# Altium schematic symbol library VALIX1_14font.SchLib: 59 symbols
Pins are listed as number, name and electrical type; pins without a type are passive.

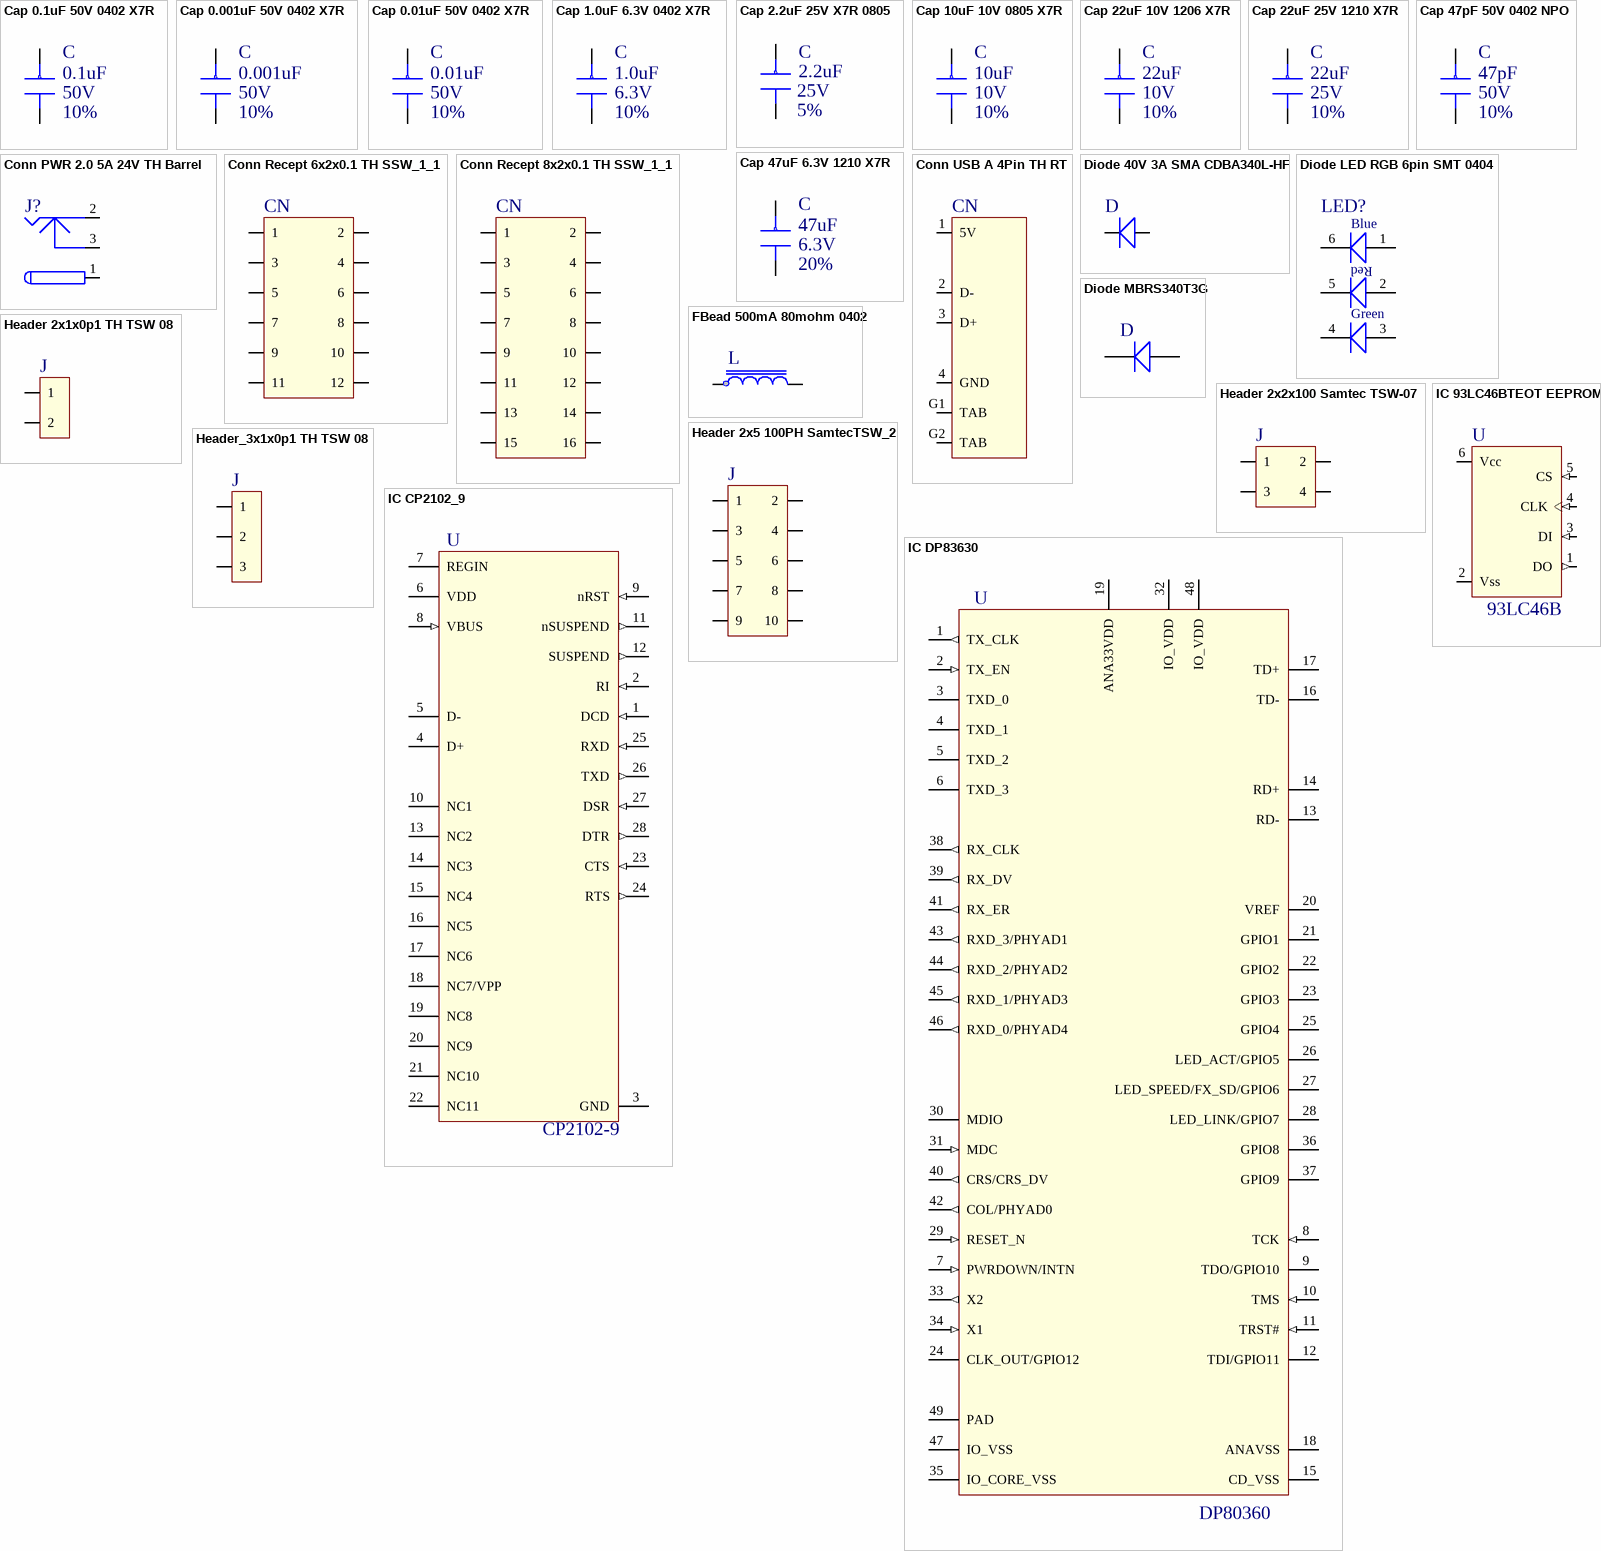
[diagram p0: symbols Cap 0.1uF 50V 0402 X7R to IC DP83630]

## Cap 0.1uF 50V 0402 X7R
designator C  value 0.1uF  Rating: 50V  Tolerance: 10%  (hidden comment: Cap 0.1uF 50V 0402 X7R)
Capacitor 0.1uF 50V 10% 0402 X7R; Manufacture: Yageo; Manufacture Part Number: CC0402KRX7R9BB104; Supplier 1: Farnell; Supplier 2: Mouser; Supplier 3: Farnell; Supplier Part Number 1: 1833861; Supplier Part Number 2: 80-C0402C104K4R; Supplier Part Number 3: 2429353
footprint CC0402_p56_TLH (Chip Capacitor, 2-Leads, Body 1.0x0.50x0.56mm, IPC Low Density)
3D model MCS_0402 (PCB3D Model)
pins: 1, 2

## Cap 0.001uF 50V 0402 X7R
designator C  value 0.001uF  Rating: 50V  Tolerance: 10%  (hidden comment: Cap 0.001uF 50V 0402 X7R)
Capacitor 0.001uF 50V10% 0402 X7R; Manufacture: Yageo; Manufacture Part Number: CC0402KRX7R9BB102; Supplier 1: Mouser; Supplier 2: Digi-Key; Supplier Part Number 1: 603-CC402KRX7R9BB102; Supplier Part Number 2: 311-1036-1-ND
footprint CC0402_p56_TLH (Chip Capacitor, 2-Leads, Body 1.0x0.50x0.56mm, IPC Low Density)
3D model MCS_0402 (PCB3D Model)
pins: 1, 2

## Cap 0.01uF 50V 0402 X7R
designator C  value 0.01uF  Rating: 50V  Tolerance: 10%  (hidden comment: Cap 0.01uF 50V 0402 X7R)
Capacitor 0.01uF 50V10% 0402 X7R; Manufacture: Yageo; Manufacture Part Number: CC0402KRX7R9BB103; Supplier 1: Mouser; Supplier 2: Digi-Key; Supplier Part Number 1: 603-CC402KRX7R9BB103; Supplier Part Number 2: 311-1349-1-ND
footprint CC0402_p56_TLH (Chip Capacitor, 2-Leads, Body 1.0x0.50x0.56mm, IPC Low Density)
3D model MCS_0402 (PCB3D Model)
pins: 1, 2

## Cap 1.0uF 6.3V 0402 X7R
designator C  value 1.0uF  Rating: 6.3V  Tolerance: 10%  (hidden comment: Cap 1.0uF 6.3V 0402 X7R)
Capacitor 1.0uF 6.3V 10% 0402 X7R; Manufacture: Yageo; Manufacture Part Number: CC0402KRX7R5BB105; Supplier 1: Mouser; Supplier 2: Digi-Key; Supplier Part Number 1: 603-CC402KRX7R5BB105; Supplier Part Number 2: 311-1702-6-ND
footprint CC0402_p56_TLH (Chip Capacitor, 2-Leads, Body 1.0x0.50x0.56mm, IPC Low Density)
3D model MCS_0402 (PCB3D Model)
pins: 1, 2

## Cap 2.2uF 25V X7R 0805
designator C, comment value 2.2uF  Rating: 25V  Tolerance: 5%  (hidden comment: Cap 2.2uF 25V 0805 X7R)
Capacitor 2.2uF 25V 5% 0805 X7R; Supplier 1: Digi-Key; Supplier 2: Digi-Key; Supplier Part Number 1: 445-6965-6-ND; Supplier Part Number 2: 587-2991-6-ND
footprint CC0805_p94H_TLH (Cap 0805 0p94 high)
3D model MCU_0805 (PCB3D Model)
pins: 1, 2

## Cap 10uF 10V 0805 X7R
designator C  value 10uF  Rating: 10V  Tolerance: 10%  (hidden comment: Cap 10uF 10V 0805 X7R)
Capacitor 10uF 10V 10% 0805 X7R; Manufacture: Yageo; Manufacture Part Number: CC0805KKX7R6BB106; Supplier 1: Digi-Key; Supplier 2: Farnell; Supplier Part Number 1: 311-1879-1-ND; Supplier Part Number 2: 2368960
footprint CC0805_p94H_TLH (Cap 0805 0p94 high)
pins: 1, 2

## Cap 22uF 10V 1206 X7R
designator C  value 22uF  Rating: 10V  Tolerance: 10%  (hidden comment: Cap 22uF 10V 1206 X7R)
Capacitor 22uF 10V 10% 1206 X7R; Manufacture: Yageo; Manufacture Part Number: CC1206MKX7R6BB226; Supplier 1: Digi-Key; Supplier 2: Farnell; Supplier Part Number 1: 311-2002-1-ND; Supplier Part Number 2: 2218909
footprint C1206
pins: 1, 2

## Cap 22uF 25V 1210 X7R
designator C, comment value 22uF  Rating: 25V  Tolerance: 10%  (hidden comment: Cap 22uF 10V 1210 X7R)
Capacitor 22uF 25V 10% 1210 X7R; Manufacture: Murata; Manufacture Part Number: GRM32ER71E226KE5L; Supplier 1: Mouser; Supplier 2: Mouser; Supplier 3: Digi-Key; Supplier Part Number 1: 81-GRM32ER71E226KE5L; Supplier Part Number 2: 80-C1210C226K3R; Supplier Part Number 3: 1276-3391-1-ND; Date Created: 20151201
footprint CC1210_H1p6_20151019 (CC1210H1.6 Chip2PinSM127P600-8N)
pins: 1, 2

## Cap 47pF 50V 0402 NPO
designator C  value 47pF  Rating: 50V  Tolerance: 10%  (hidden comment: Cap 47pF 50V 0402 NPO)
Capacitor 47pF 50V 10% 0402 NPO; Manufacture: AVX; Manufacture Part Number: 04025A470JAT2A; Supplier 1: Newark; Supplier 2: Digi-Key; Supplier 3: Mouser; Supplier Part Number 1: 96M1153; Supplier Part Number 2: 478-1078-6-ND; Supplier Part Number 3: 603-AC0402JR9BN470
footprint CC0402_p56_TLH (Chip Capacitor, 2-Leads, Body 1.0x0.50x0.56mm, IPC Low Density)
3D model MCS_0402 (PCB3D Model)
pins: 1, 2

## Cap 47uF 6.3V 1210 X7R
designator C  value 47uF  Rating: 6.3V  Tolerance: 20%  (hidden comment: Cap 47uF 6.3V 1210 X7R)
Capacitor 47uF 6.3V 20% 1210 X7R; Manufacture: Murata; Manufacture Part Number: GRM32ER70J476ME20L; Supplier 1: Digi-Key; Supplier 2: Newark; Supplier 3: Mouser; Supplier Part Number 1: 490-6542-1-ND; Supplier Part Number 2: 94M5704; Supplier Part Number 3: 81-GRM32ER70J476ME0L
footprint CC1210_H1p6_20151019 (CC1210H1.6 Chip2PinSM127P600-8N)
pins: 1, 2

## Conn PWR 2.0 5A 24V TH Barrel
designator J?  (value not drawn)
Manufacture Part Number: KLDHCX-0202-A; Manufacture: Kycon; ComponentLink1URL: http://domino.kycon.com/internet/Products.html; Supplier 1: Mouser; Supplier 2: Mouser; Supplier Part Number 1: 806-KLDHCX-0202-A-LT; Supplier Part Number 2: 806-KLDHCX-0202-A
footprint KLD-0202 (DC Power Jack, 2.5mm, KLD Series, PCB Mount)
pins: 1 (power), 2 (power), 3 (power)

## Conn Recept 6x2x0.1 TH SSW_1_1
designator CN, comment Conn Recept 6x2x0.1 TH SSW  (value not drawn)
Manufature: Samtec; Manufacture Part number: SSW-106-xx-G-D; Supplier 1: Digi-Key; Supplier 2: Farnell; Supplier Part Number 1: SAM1214-06-ND; Supplier Part Number 2: 1668354
footprint Conn Recept 6x2x8p35 0p1PH TH (Conn Recept 6x2x8p35 0p1PH TH Samtec SSW)
pins: 1, 2, 3, 4, 5, 6, 7, 8, 9, 10, 11 (power), 12 (power)

## Conn Recept 8x2x0.1 TH SSW_1_1
designator CN, comment Conn Recept 8x2x0.1 TH SSW  (value not drawn)
Manufature: Samtec; Manufacture Part number: SSW-108-xx-G-D; Supplier 1: Digi-Key; Supplier 2: Farnell; Supplier Part Number 1: SAM1214-08-ND; Supplier Part Number 2: 1668364
footprint Conn Recept 8x2x8p35 0p1PH TH (Conn Recept 8x2x8p35 0p1PH TH Samtec SSW)
pins: 1, 2, 3, 4, 5, 6, 7, 8, 9, 10, 11, 12, 13, 14, 15, 16

## Conn USB A 4Pin TH RT
designator CN, comment Conn USB A TH RT  (value not drawn)
Connector USB A 4Pin TH RT; Supplier 1: Newark; Supplier 2: Digi-Key; Supplier 3: Mouser; Supplier 4: Arrow; Supplier Part Number 1: 01J8374; Supplier Part Number 2: WM17117-ND; Supplier Part Number 3: 538-48037-0001; Supplier Part Number 4: zAc_MAfs4zVJ_QhPoMB0GZu3CPMjh44DToxilnH02fA
footprint Connector USB A 4Pin Plug RT
pins: 1 5V, 2 D-, 3 D+, 4 GND, G1 TAB, G2 TAB

## Diode 40V 3A SMA CDBA340L-HF
designator D, comment Diode 40V 3A  (value not drawn)
Diode 40V 3A SMA CDBA340L-HF; Manufacturer: Comchip; Supplier 1: Digi-Key; Supplier 2: Mouser; Supplier Part Number 1: 641-1702-1-ND; Supplier Part Number 2: 750-CDBA340L-HF; Manufacturer Part Number: CDBA340L-HF
footprint SMA_SOICJ127P600-8N (SMA Diode)
pins: 1 C NEG, 2 A POS

## Diode LED RGB 6pin SMT 0404
designator LED?, comment LED RGB  (value not drawn)
Diode LED RGB 6pin SMT 0404; Manufacture Part Number: SMLP36RGB2W3; Manufacture: Rohm; Supplier 1: Mouser; Supplier 2: Digi-Key; Supplier Part Number 1: 755-SMLP36RGB2W3R; Supplier Part Number 2: 846-1097-1-ND
footprint LED_RGB_1p5x1p0x0p2_6pin_SON57P100X256N (SON, 6-Leads, Body 1.50x1.00mm, Pitch 0.57mm, IPC Medium Density)
pins: 1 BLue_Anode, 2 Red_Anode, 3 Green_Anode, 4 Green_cath, 5 Red_cath, 6 Blue_cath
text: Blue; Red; Green

## Diode MBRS340T3G
designator D  (value not drawn)
Diode 40V 3A SMC MBRS340T3G; Supplier 1: Digi-Key; Supplier Part Number 1: MBRS340T3GOSCT-ND
footprint SMC
3D model SMC (PCB3D Model)
pins: 1 C NEG, 2 A POS

## FBead 500mA 80mohm 0402
designator L, comment FB 0.5A 80mohm 0402  (value not drawn)
Ferrite Bead 500mA 80mohm 0402; Manufacturer Part Number: BLM15BB050SN1D; Manufacturer: Murata; Supplier 1: Mouser; Supplier 2: Digi-Key; Supplier Part Number 1: 81-BLM15BB050SN1D; Supplier Part Number 2: 490-5185-1-ND; Value: 0.5A
footprint Chip2PinSM127P600-8N_TLH20150921 (Chip 0402 inductor)
pins: 1, 2

## Header 2x1x0p1 TH TSW 08
designator J  (value not drawn)
Header 2x1x0p1 TH TSW 08; Manufacture: Samtec; Manufacture Part Number: TSW-102-07-G-S; Supplier 1: Arrow; Supplier 2: Digi-Key; Supplier Part Number 1: XqXcRUZDoil1pcHE_dgIYZ2y-Twifka2BTSvqET9Puo; Supplier Part Number 2: SAM8736-ND
footprint Header 2x1x0p1 TH TSW (Header 2x1x0p1 Thru OV-430)
pins: 1, 2

## Header 2x2x100 Samtec TSW-07
designator J, comment Header 2x2 100Pitch  (value not drawn)
Header 2x2x100pitch Pin TSW; Manufature: Samtec; Manufacture Part Number: TSW-102-07-G-D; Supplier 1: Digi-Key; Supplier 2: Newark; Supplier Part Number 1: HTSW-102-07-G-D-ND; Supplier Part Number 2: 12P1257
footprint Header_2x2x0p100e (Header 2x2x100mil Samtec TSW standard)
pins: 1, 2, 3, 4

## Header 2x5 100PH SamtecTSW_2
designator J, comment Header 2x5 100Pitch  (value not drawn)
Header 2x5x100pitch Pin TSW; Manufature: Samtec; Manufacture Part number: TSW-105-07-G-D; Supplier 1: Digi-Key; Supplier 2: Arrow; Supplier 3: Farnell; Supplier Part Number 1: HTSW-105-07-G-D-ND; Supplier Part Number 2: vhWTpuTKCcs3C_TdRGpLCLgt6TM2wgVjnAWb2rFNMs4; Supplier Part Number 3: 2025251
footprint Header_2x5_100x100 (Header 2x5 100x100 Samtec TSW standard)
pins: 1, 2, 3, 4, 5, 6, 7, 8, 9, 10

## Header_3x1x0p1 TH TSW 08
designator J  (value not drawn)
Header 3x1x0p1 TH TSW 08; Manufacture: Samtec; Manufacture Part Number: TSW-103-07-G-S; Supplier 1: Arrow; Supplier 2: Digi-Key; Supplier Part Number 1: ki_VQBX7cJb-mj5zBWhuwBP_UpLbgrxgo2dDFNibvJM; Supplier Part Number 2: SAM1029-03-ND
footprint Header 3x1x0p1 TH TSW (Header 2x1x0p1 Thru OV-430)
pins: 1, 2, 3 (power)

## IC 93LC46BTEOT EEPROM
designator U, comment 93LC46B
IC EEPROM Serial  SOT23 6Pin; Supplier 2: Mouser; Supplier Part Number 2: 579-93LC46BT-E/OT; Supplier 1: Mouser; Supplier 3: Allied; Supplier Part Number 1: 579-93LC46BT-E/OT; Supplier Part Number 3: 70571703
footprint SO-G6/E2.4 (Small Outline; 6 Leads; Body 3.6 x 3.6 mm, inc. leads (LxW max))
pins: 1 DO (out), 2 Vss, 3 DI (in), 4 CLK (in), 5 CS (in), 6 Vcc (power)

## IC CP2102_9
designator U, comment CP2102-9
IC USB and UART Bridge QFN-48; Manufacturer: TI; Part Number: CP2102-9
footprint QFN50P500X500X100_HS-29N_TLH (QFN, 28-Leads, Body 5.00x5.00mm, Pitch 0.50mm, Thermal Pad 2.82x2.82mm, IPC Medium Density)
pins: 1 DCD (in), 2 RI (in), 3 GND, 4 D+, 5 D-, 6 VDD, 7 REGIN (power), 8 VBUS (in), 9 nRST (in), 10 NC1, 11 nSUSPEND (out), 12 SUSPEND (out), 13 NC2, 14 NC3, 15 NC4, 16 NC5, 17 NC6, 18 NC7/VPP, 19 NC8, 20 NC9, 21 NC10, 22 NC11, 23 CTS (in), 24 RTS (out), 25 RXD (in), 26 TXD (out), 27 DSR (in), 28 DTR (out)

## IC DP83630
designator U, comment Manufacturer Part Number: DP80360  (hidden comment: Precision PHYTER)
Precision PHYTER WQFN-49; Manufacturer: TI; Supplier 1: Digi-Key; Supplier Part Number 1: 296-37340-2-ND
footprint QFN50P700X700X80_HS-49N_TLH - duplicate (QFN, 48-Leads, Body 7.00x7.00mm, Pitch 0.50mm, Thermal Pad 5.10x5.10mm, IPC Medium Density)
pins: 1 TX_CLK (out), 2 TX_EN (in), 3 TXD_0, 4 TXD_1, 5 TXD_2, 6 TXD_3, 7 PWRDOWN/INTN (in), 8 TCK (in), 9 TDO/GPIO10, 10 TMS (in), 11 TRST# (in), 12 TDI/GPIO11, 13 RD-, 14 RD+, 15 CD_VSS, 16 TD-, 17 TD+, 18 ANAVSS, 19 ANA33VDD (power), 20 VREF, 21 GPIO1, 22 GPIO2, 23 GPIO3, 24 CLK_OUT/GPIO12, 25 GPIO4, 26 LED_ACT/GPIO5, 27 LED_SPEED/FX_SD/GPIO6, 28 LED_LINK/GPIO7, 29 RESET_N (in), 30 MDIO, 31 MDC (in), 32 IO_VDD (power), 33 X2 (out), 34 X1 (in), 35 IO_CORE_VSS, 36 GPIO8, 37 GPIO9, 38 RX_CLK (out), 39 RX_DV (out), 40 CRS/CRS_DV (out), 41 RX_ER (out), 42 COL/PHYAD0 (out), 43 RXD_3/PHYAD1 (out), 44 RXD_2/PHYAD2 (out), 45 RXD_1/PHYAD3 (out), 46 RXD_0/PHYAD4 (out), 47 IO_VSS, 48 IO_VDD (power), 49 PAD

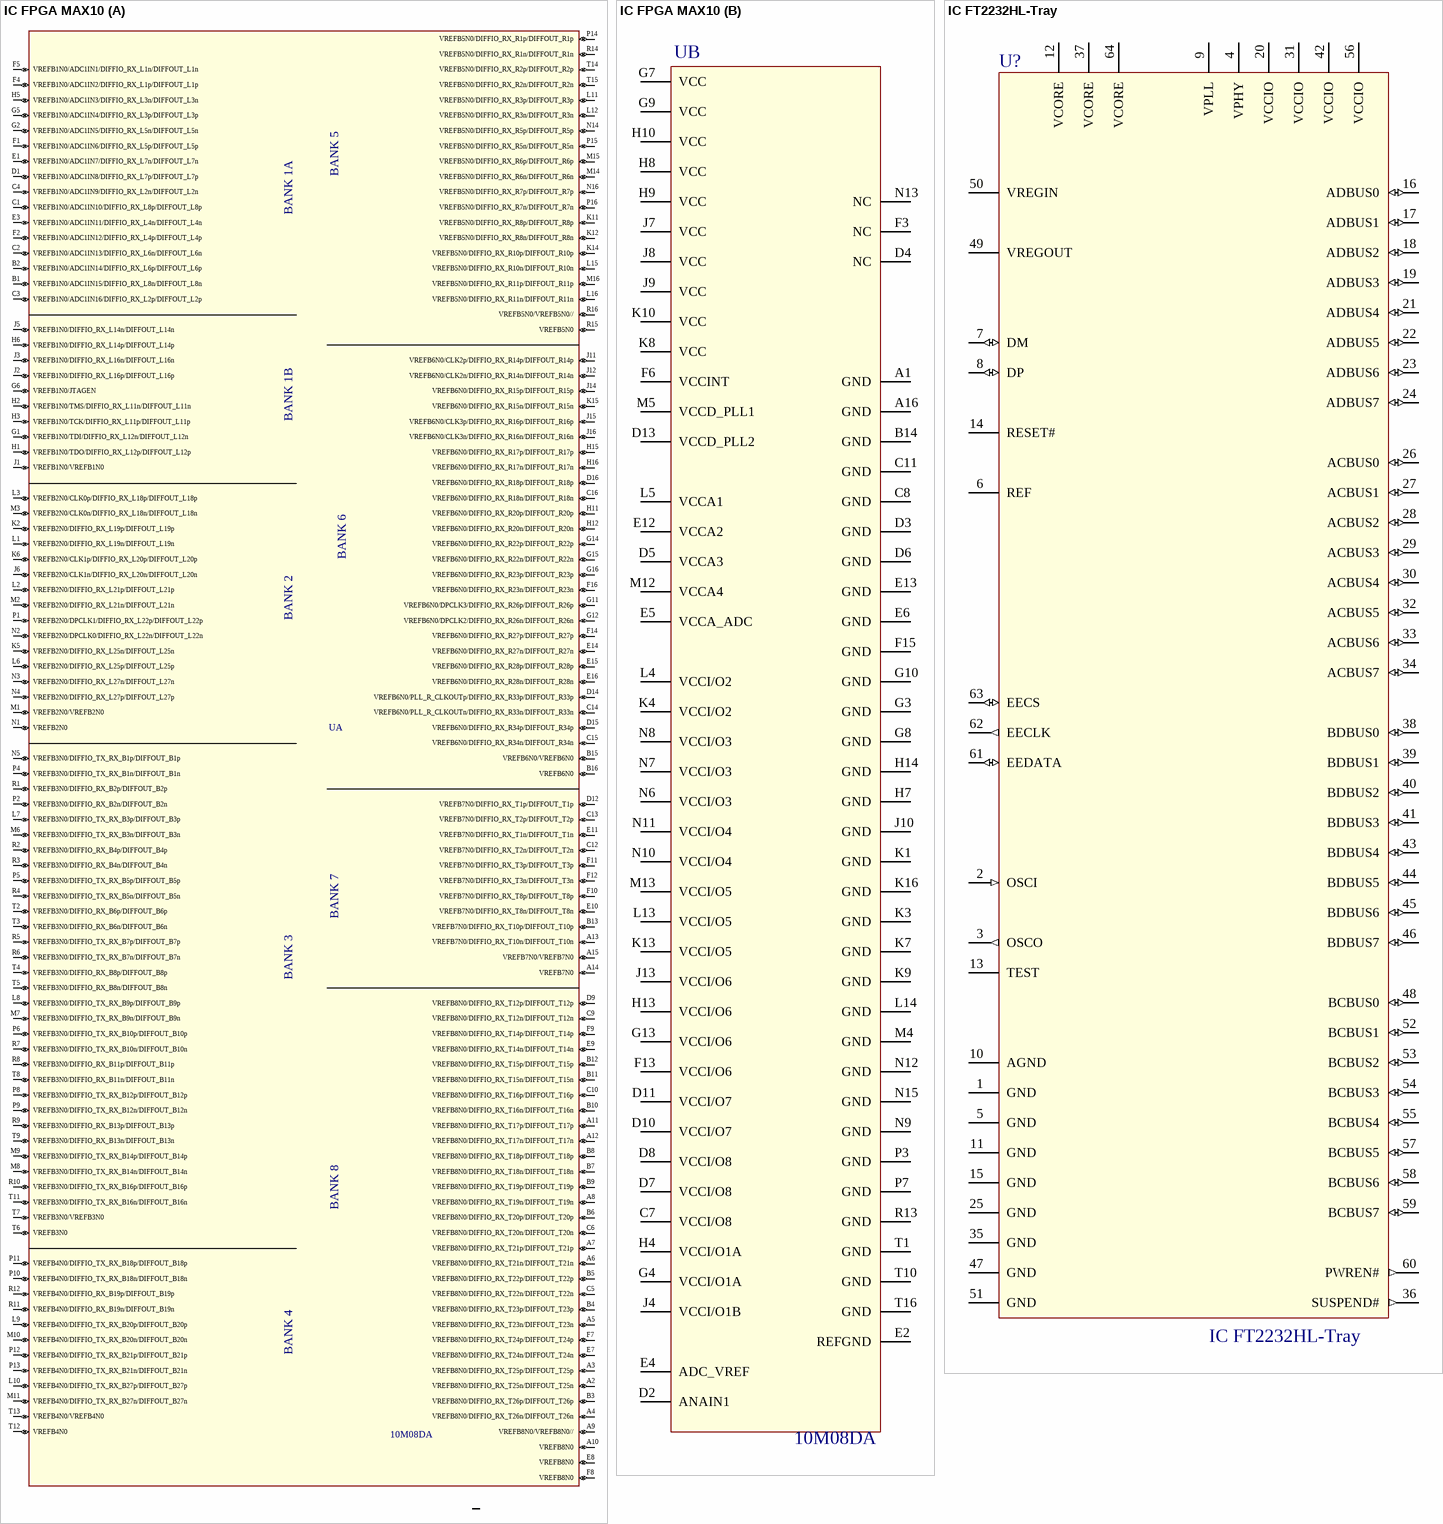
[diagram p1: symbols IC FPGA MAX10 to IC FT2232HL-Tray]

## IC FPGA MAX10
designator U, comment 10M08DA
Manufacture Part Number: 10M08DA
footprint BGA256C100P16X16_1700X1700X155 (BGA, 256-Leads, Body 17.00x17.00mmx1.55mm, Pitch 1.00mm)
part A pins: A2 VREFB8N0/DIFFIO_RX_T25n/DIFFOUT_T25n (io), A3 VREFB8N0/DIFFIO_RX_T25p/DIFFOUT_T25p (io), A4 VREFB8N0/DIFFIO_RX_T26n/DIFFOUT_T26n (io), A5 VREFB8N0/DIFFIO_RX_T23n/DIFFOUT_T23n (io), A6 VREFB8N0/DIFFIO_RX_T21n/DIFFOUT_T21n (io), A7 VREFB8N0/DIFFIO_RX_T21p/DIFFOUT_T21p (io), A8 VREFB8N0/DIFFIO_RX_T19n/DIFFOUT_T19n (io), A9 VREFB8N0/VREFB8N0// (io), A10 VREFB8N0 (io), A11 VREFB8N0/DIFFIO_RX_T17p/DIFFOUT_T17p (io), A12 VREFB8N0/DIFFIO_RX_T17n/DIFFOUT_T17n (io), A13 VREFB7N0/DIFFIO_RX_T10n/DIFFOUT_T10n (io), A14 VREFB7N0 (io), A15 VREFB7N0/VREFB7N0 (io), B1 VREFB1N0/ADC1IN15/DIFFIO_RX_L8n/DIFFOUT_L8n (io), B2 VREFB1N0/ADC1IN14/DIFFIO_RX_L6p/DIFFOUT_L6p (io), B3 VREFB8N0/DIFFIO_RX_T26p/DIFFOUT_T26p (io), B4 VREFB8N0/DIFFIO_RX_T23p/DIFFOUT_T23p (io), B5 VREFB8N0/DIFFIO_RX_T22p/DIFFOUT_T22p (io), B6 VREFB8N0/DIFFIO_RX_T20p/DIFFOUT_T20p (io), B7 VREFB8N0/DIFFIO_RX_T18n/DIFFOUT_T18n (io), B8 VREFB8N0/DIFFIO_RX_T18p/DIFFOUT_T18p (io), B9 VREFB8N0/DIFFIO_RX_T19p/DIFFOUT_T19p (io), B10 VREFB8N0/DIFFIO_RX_T16n/DIFFOUT_T16n (io), B11 VREFB8N0/DIFFIO_RX_T15n/DIFFOUT_T15n (io), B12 VREFB8N0/DIFFIO_RX_T15p/DIFFOUT_T15p (io), B13 VREFB7N0/DIFFIO_RX_T10p/DIFFOUT_T10p (io), B15 VREFB6N0/VREFB6N0 (io), B16 VREFB6N0 (io), C1 VREFB1N0/ADC1IN10/DIFFIO_RX_L8p/DIFFOUT_L8p (io), C2 VREFB1N0/ADC1IN13/DIFFIO_RX_L6n/DIFFOUT_L6n (io), C3 VREFB1N0/ADC1IN16/DIFFIO_RX_L2p/DIFFOUT_L2p (io), C4 VREFB1N0/ADC1IN9/DIFFIO_RX_L2n/DIFFOUT_L2n (io), C5 VREFB8N0/DIFFIO_RX_T22n/DIFFOUT_T22n (io), C6 VREFB8N0/DIFFIO_RX_T20n/DIFFOUT_T20n (io), C9 VREFB8N0/DIFFIO_RX_T12n/DIFFOUT_T12n (io), C10 VREFB8N0/DIFFIO_RX_T16p/DIFFOUT_T16p (io), C12 VREFB7N0/DIFFIO_RX_T2n/DIFFOUT_T2n (io), C13 VREFB7N0/DIFFIO_RX_T2p/DIFFOUT_T2p (io), C14 VREFB6N0/PLL_R_CLKOUTn/DIFFIO_RX_R33n/DIFFOUT_R33n (io), C15 VREFB6N0/DIFFIO_RX_R34n/DIFFOUT_R34n (io), C16 VREFB6N0/DIFFIO_RX_R18n/DIFFOUT_R18n (io), D1 VREFB1N0/ADC1IN8/DIFFIO_RX_L7p/DIFFOUT_L7p (io), D9 VREFB8N0/DIFFIO_RX_T12p/DIFFOUT_T12p (io), D12 VREFB7N0/DIFFIO_RX_T1p/DIFFOUT_T1p (io), D14 VREFB6N0/PLL_R_CLKOUTp/DIFFIO_RX_R33p/DIFFOUT_R33p (io), D15 VREFB6N0/DIFFIO_RX_R34p/DIFFOUT_R34p (io), D16 VREFB6N0/DIFFIO_RX_R18p/DIFFOUT_R18p (io), E1 VREFB1N0/ADC1IN7/DIFFIO_RX_L7n/DIFFOUT_L7n (io), E3 VREFB1N0/ADC1IN11/DIFFIO_RX_L4n/DIFFOUT_L4n (io), E7 VREFB8N0/DIFFIO_RX_T24n/DIFFOUT_T24n (io), E8 VREFB8N0 (io), E9 VREFB8N0/DIFFIO_RX_T14n/DIFFOUT_T14n (io), E10 VREFB7N0/DIFFIO_RX_T8n/DIFFOUT_T8n (io), E11 VREFB7N0/DIFFIO_RX_T1n/DIFFOUT_T1n (io), E14 VREFB6N0/DIFFIO_RX_R27n/DIFFOUT_R27n (io), E15 VREFB6N0/DIFFIO_RX_R28p/DIFFOUT_R28p (io), E16 VREFB6N0/DIFFIO_RX_R28n/DIFFOUT_R28n (io), F1 VREFB1N0/ADC1IN6/DIFFIO_RX_L5p/DIFFOUT_L5p (io), F2 VREFB1N0/ADC1IN12/DIFFIO_RX_L4p/DIFFOUT_L4p (io), F4 VREFB1N0/ADC1IN2/DIFFIO_RX_L1p/DIFFOUT_L1p (io), F5 VREFB1N0/ADC1IN1/DIFFIO_RX_L1n/DIFFOUT_L1n (io), F7 VREFB8N0/DIFFIO_RX_T24p/DIFFOUT_T24p (io), F8 VREFB8N0 (io), F9 VREFB8N0/DIFFIO_RX_T14p/DIFFOUT_T14p (io), F10 VREFB7N0/DIFFIO_RX_T8p/DIFFOUT_T8p (io), F11 VREFB7N0/DIFFIO_RX_T3p/DIFFOUT_T3p (io), F12 VREFB7N0/DIFFIO_RX_T3n/DIFFOUT_T3n (io), F14 VREFB6N0/DIFFIO_RX_R27p/DIFFOUT_R27p (io), F16 VREFB6N0/DIFFIO_RX_R23n/DIFFOUT_R23n (io), G1 VREFB1N0/TDI/DIFFIO_RX_L12n/DIFFOUT_L12n (io), G2 VREFB1N0/ADC1IN5/DIFFIO_RX_L5n/DIFFOUT_L5n (io), G5 VREFB1N0/ADC1IN4/DIFFIO_RX_L3p/DIFFOUT_L3p (io), G6 VREFB1N0/JTAGEN (io), G11 VREFB6N0/DPCLK3/DIFFIO_RX_R26p/DIFFOUT_R26p (io), G12 VREFB6N0/DPCLK2/DIFFIO_RX_R26n/DIFFOUT_R26n (io), G14 VREFB6N0/DIFFIO_RX_R22p/DIFFOUT_R22p (io), G15 VREFB6N0/DIFFIO_RX_R22n/DIFFOUT_R22n (io), G16 VREFB6N0/DIFFIO_RX_R23p/DIFFOUT_R23p (io), H1 VREFB1N0/TDO/DIFFIO_RX_L12p/DIFFOUT_L12p (io), H2 VREFB1N0/TMS/DIFFIO_RX_L11n/DIFFOUT_L11n (io), H3 VREFB1N0/TCK/DIFFIO_RX_L11p/DIFFOUT_L11p (io), H5 VREFB1N0/ADC1IN3/DIFFIO_RX_L3n/DIFFOUT_L3n (io), H6 VREFB1N0/DIFFIO_RX_L14p/DIFFOUT_L14p (io), H11 VREFB6N0/DIFFIO_RX_R20p/DIFFOUT_R20p (io), H12 VREFB6N0/DIFFIO_RX_R20n/DIFFOUT_R20n (io), H15 VREFB6N0/DIFFIO_RX_R17p/DIFFOUT_R17p (io), H16 VREFB6N0/DIFFIO_RX_R17n/DIFFOUT_R17n (io), J1 VREFB1N0/VREFB1N0 (io), J2 VREFB1N0/DIFFIO_RX_L16p/DIFFOUT_L16p (io), J3 VREFB1N0/DIFFIO_RX_L16n/DIFFOUT_L16n (io), J5 VREFB1N0/DIFFIO_RX_L14n/DIFFOUT_L14n (io), J6 VREFB2N0/CLK1n/DIFFIO_RX_L20n/DIFFOUT_L20n (io), J11 VREFB6N0/CLK2p/DIFFIO_RX_R14p/DIFFOUT_R14p (io), J12 VREFB6N0/CLK2n/DIFFIO_RX_R14n/DIFFOUT_R14n (io), J14 VREFB6N0/DIFFIO_RX_R15p/DIFFOUT_R15p (io), J15 VREFB6N0/CLK3p/DIFFIO_RX_R16p/DIFFOUT_R16p (io), J16 VREFB6N0/CLK3n/DIFFIO_RX_R16n/DIFFOUT_R16n (io), K2 VREFB2N0/DIFFIO_RX_L19p/DIFFOUT_L19p (io), K5 VREFB2N0/DIFFIO_RX_L25n/DIFFOUT_L25n (io), K6 VREFB2N0/CLK1p/DIFFIO_RX_L20p/DIFFOUT_L20p (io), K11 VREFB5N0/DIFFIO_RX_R8p/DIFFOUT_R8p (io), K12 VREFB5N0/DIFFIO_RX_R8n/DIFFOUT_R8n (io), K14 VREFB5N0/DIFFIO_RX_R10p/DIFFOUT_R10p (io), K15 VREFB6N0/DIFFIO_RX_R15n/DIFFOUT_R15n (io), L1 VREFB2N0/DIFFIO_RX_L19n/DIFFOUT_L19n (io), L2 VREFB2N0/DIFFIO_RX_L21p/DIFFOUT_L21p (io), L3 VREFB2N0/CLK0p/DIFFIO_RX_L18p/DIFFOUT_L18p (io), L6 VREFB2N0/DIFFIO_RX_L25p/DIFFOUT_L25p (io), L7 VREFB3N0/DIFFIO_TX_RX_B3p/DIFFOUT_B3p (io), L8 VREFB3N0/DIFFIO_TX_RX_B9p/DIFFOUT_B9p (io), L9 VREFB4N0/DIFFIO_TX_RX_B20p/DIFFOUT_B20p (io), L10 VREFB4N0/DIFFIO_TX_RX_B27p/DIFFOUT_B27p (io), L11 VREFB5N0/DIFFIO_RX_R3p/DIFFOUT_R3p (io), L12 VREFB5N0/DIFFIO_RX_R3n/DIFFOUT_R3n (io), L15 VREFB5N0/DIFFIO_RX_R10n/DIFFOUT_R10n (io), L16 VREFB5N0/DIFFIO_RX_R11n/DIFFOUT_R11n (io), M1 VREFB2N0/VREFB2N0 (io), M2 VREFB2N0/DIFFIO_RX_L21n/DIFFOUT_L21n (io), M3 VREFB2N0/CLK0n/DIFFIO_RX_L18n/DIFFOUT_L18n (io), M6 VREFB3N0/DIFFIO_TX_RX_B3n/DIFFOUT_B3n (io), M7 VREFB3N0/DIFFIO_TX_RX_B9n/DIFFOUT_B9n (io), M8 VREFB3N0/DIFFIO_TX_RX_B14n/DIFFOUT_B14n (io), M9 VREFB3N0/DIFFIO_TX_RX_B14p/DIFFOUT_B14p (io), M10 VREFB4N0/DIFFIO_TX_RX_B20n/DIFFOUT_B20n (io), M11 VREFB4N0/DIFFIO_TX_RX_B27n/DIFFOUT_B27n (io), M14 VREFB5N0/DIFFIO_RX_R6n/DIFFOUT_R6n (io), M15 VREFB5N0/DIFFIO_RX_R6p/DIFFOUT_R6p (io), M16 VREFB5N0/DIFFIO_RX_R11p/DIFFOUT_R11p (io), N1 VREFB2N0 (io), N2 VREFB2N0/DPCLK0/DIFFIO_RX_L22n/DIFFOUT_L22n (io), N3 VREFB2N0/DIFFIO_RX_L27n/DIFFOUT_L27n (io), N4 VREFB2N0/DIFFIO_RX_L27p/DIFFOUT_L27p (io), N5 VREFB3N0/DIFFIO_TX_RX_B1p/DIFFOUT_B1p (io), N14 VREFB5N0/DIFFIO_RX_R5p/DIFFOUT_R5p (io), N16 VREFB5N0/DIFFIO_RX_R7p/DIFFOUT_R7p (io), P1 VREFB2N0/DPCLK1/DIFFIO_RX_L22p/DIFFOUT_L22p (io), P2 VREFB3N0/DIFFIO_RX_B2n/DIFFOUT_B2n (io), P4 VREFB3N0/DIFFIO_TX_RX_B1n/DIFFOUT_B1n (io), P5 VREFB3N0/DIFFIO_TX_RX_B5p/DIFFOUT_B5p (io), P6 VREFB3N0/DIFFIO_TX_RX_B10p/DIFFOUT_B10p (io), P8 VREFB3N0/DIFFIO_TX_RX_B12p/DIFFOUT_B12p (io), P9 VREFB3N0/DIFFIO_TX_RX_B12n/DIFFOUT_B12n (io), P10 VREFB4N0/DIFFIO_TX_RX_B18n/DIFFOUT_B18n (io), P11 VREFB4N0/DIFFIO_TX_RX_B18p/DIFFOUT_B18p (io), P12 VREFB4N0/DIFFIO_TX_RX_B21p/DIFFOUT_B21p (io), P13 VREFB4N0/DIFFIO_TX_RX_B21n/DIFFOUT_B21n (io), P14 VREFB5N0/DIFFIO_RX_R1p/DIFFOUT_R1p (io), P15 VREFB5N0/DIFFIO_RX_R5n/DIFFOUT_R5n (io), P16 VREFB5N0/DIFFIO_RX_R7n/DIFFOUT_R7n (io), R1 VREFB3N0/DIFFIO_RX_B2p/DIFFOUT_B2p (io), R2 VREFB3N0/DIFFIO_RX_B4p/DIFFOUT_B4p (io), R3 VREFB3N0/DIFFIO_RX_B4n/DIFFOUT_B4n (io), R4 VREFB3N0/DIFFIO_TX_RX_B5n/DIFFOUT_B5n (io), R5 VREFB3N0/DIFFIO_TX_RX_B7p/DIFFOUT_B7p (io), R6 VREFB3N0/DIFFIO_TX_RX_B7n/DIFFOUT_B7n (io), R7 VREFB3N0/DIFFIO_TX_RX_B10n/DIFFOUT_B10n (io), R8 VREFB3N0/DIFFIO_RX_B11p/DIFFOUT_B11p (io), R9 VREFB3N0/DIFFIO_RX_B13p/DIFFOUT_B13p (io), R10 VREFB3N0/DIFFIO_TX_RX_B16p/DIFFOUT_B16p (io), R11 VREFB4N0/DIFFIO_RX_B19n/DIFFOUT_B19n (io), R12 VREFB4N0/DIFFIO_RX_B19p/DIFFOUT_B19p (io), R14 VREFB5N0/DIFFIO_RX_R1n/DIFFOUT_R1n (io), R15 VREFB5N0 (io), R16 VREFB5N0/VREFB5N0// (io), T2 VREFB3N0/DIFFIO_RX_B6p/DIFFOUT_B6p (io), T3 VREFB3N0/DIFFIO_RX_B6n/DIFFOUT_B6n (io), T4 VREFB3N0/DIFFIO_RX_B8p/DIFFOUT_B8p (io), T5 VREFB3N0/DIFFIO_RX_B8n/DIFFOUT_B8n (io), T6 VREFB3N0 (io), T7 VREFB3N0/VREFB3N0 (io), T8 VREFB3N0/DIFFIO_RX_B11n/DIFFOUT_B11n (io), T9 VREFB3N0/DIFFIO_RX_B13n/DIFFOUT_B13n (io), T11 VREFB3N0/DIFFIO_TX_RX_B16n/DIFFOUT_B16n (io), T12 VREFB4N0 (io), T13 VREFB4N0/VREFB4N0 (io), T14 VREFB5N0/DIFFIO_RX_R2p/DIFFOUT_R2p (io), T15 VREFB5N0/DIFFIO_RX_R2n/DIFFOUT_R2n (io)
part B pins: A1 GND, A16 GND, B14 GND, C7 VCCI/O8 (power), C8 GND, C11 GND, D2 ANAIN1 (power), D3 GND, D4 NC, D5 VCCA3 (power), D6 GND, D7 VCCI/O8 (power), D8 VCCI/O8 (power), D10 VCCI/O7 (power), D11 VCCI/O7 (power), D13 VCCD_PLL2 (power), E2 REFGND, E4 ADC_VREF (power), E5 VCCA_ADC (power), E6 GND, E12 VCCA2 (power), E13 GND, F3 NC, F6 VCCINT (power), F13 VCCI/O6 (power), F15 GND, G3 GND, G4 VCCI/O1A (power), G7 VCC (power), G8 GND, G9 VCC (power), G10 GND, G13 VCCI/O6 (power), H4 VCCI/O1A (power), H7 GND, H8 VCC (power), H9 VCC (power), H10 VCC (power), H13 VCCI/O6 (power), H14 GND, J4 VCCI/O1B (power), J7 VCC (power), J8 VCC (power), J9 VCC (power), J10 GND, J13 VCCI/O6 (power), K1 GND, K3 GND, K4 VCCI/O2 (power), K7 GND, K8 VCC (power), K9 GND, K10 VCC (power), K13 VCCI/O5 (power), K16 GND, L4 VCCI/O2 (power), L5 VCCA1 (power), L13 VCCI/O5 (power), L14 GND, M4 GND, M5 VCCD_PLL1 (power), M12 VCCA4 (power), M13 VCCI/O5 (power), N6 VCCI/O3 (power), N7 VCCI/O3 (power), N8 VCCI/O3 (power), N9 GND, N10 VCCI/O4 (power), N11 VCCI/O4 (power), N12 GND, N13 NC, N15 GND, P3 GND, P7 GND, R13 GND, T1 GND, T10 GND, T16 GND
part A text: BANK 5; BANK 1A; BANK 1B; BANK 6; BANK 2; BANK 7; BANK 3; BANK 8; BANK 4

## IC FT2232HL-Tray
designator U?
Dual High Speed USB To Multipurpose UART/FIFO IC, 64-pin LQFP, Tray; Manufacturer: FTDI; DatasheetVersion: ver 2.21, Jun-2012; PackageVersion: Jun-12; PackageReference: LQFP-64; PackageDescription: 64-Pin Thin Quad Flat Pack, 10 x 10 x 1.4 mm Body, 0.5 mm Pitch; PartNumber: FT2232HL-Tray; ComponentLink1Description: Manufacturer URL; ComponentLink1URL: http://www.ftdichip.com/; ComponentLink2Description: Datasheet; ComponentLink2URL: http://www.ftdichip.com/Support/Documents/DataSheets/ICs/DS_FT2232H.pdf
footprint LQFP-64_N (Thin QFP, 64-Leads, Body 10x10mm, Pitch 0.5mm, IPC Medium Density)
pins: 1 GND, 2 OSCI (in), 3 OSCO (out), 4 VPHY (power), 5 GND, 6 REF, 7 DM (io), 8 DP (io), 9 VPLL (power), 10 AGND, 11 GND, 12 VCORE (power), 13 TEST, 14 RESET#, 15 GND, 16 ADBUS0 (io), 17 ADBUS1 (io), 18 ADBUS2 (io), 19 ADBUS3 (io), 20 VCCIO (power), 21 ADBUS4 (io), 22 ADBUS5 (io), 23 ADBUS6 (io), 24 ADBUS7 (io), 25 GND, 26 ACBUS0 (io), 27 ACBUS1 (io), 28 ACBUS2 (io), 29 ACBUS3 (io), 30 ACBUS4 (io), 31 VCCIO (power), 32 ACBUS5 (io), 33 ACBUS6 (io), 34 ACBUS7 (io), 35 GND, 36 SUSPEND# (out), 37 VCORE (power), 38 BDBUS0 (io), 39 BDBUS1 (io), 40 BDBUS2 (io), 41 BDBUS3 (io), 42 VCCIO (power), 43 BDBUS4 (io), 44 BDBUS5 (io), 45 BDBUS6 (io), 46 BDBUS7 (io), 47 GND, 48 BCBUS0 (io), 49 VREGOUT (power), 50 VREGIN (power), 51 GND, 52 BCBUS1 (io), 53 BCBUS2 (io), 54 BCBUS3 (io), 55 BCBUS4 (io), 56 VCCIO (power), 57 BCBUS5 (io), 58 BCBUS6 (io), 59 BCBUS7 (io), 60 PWREN# (out), 61 EEDATA (io), 62 EECLK (out), 63 EECS (io), 64 VCORE (power)

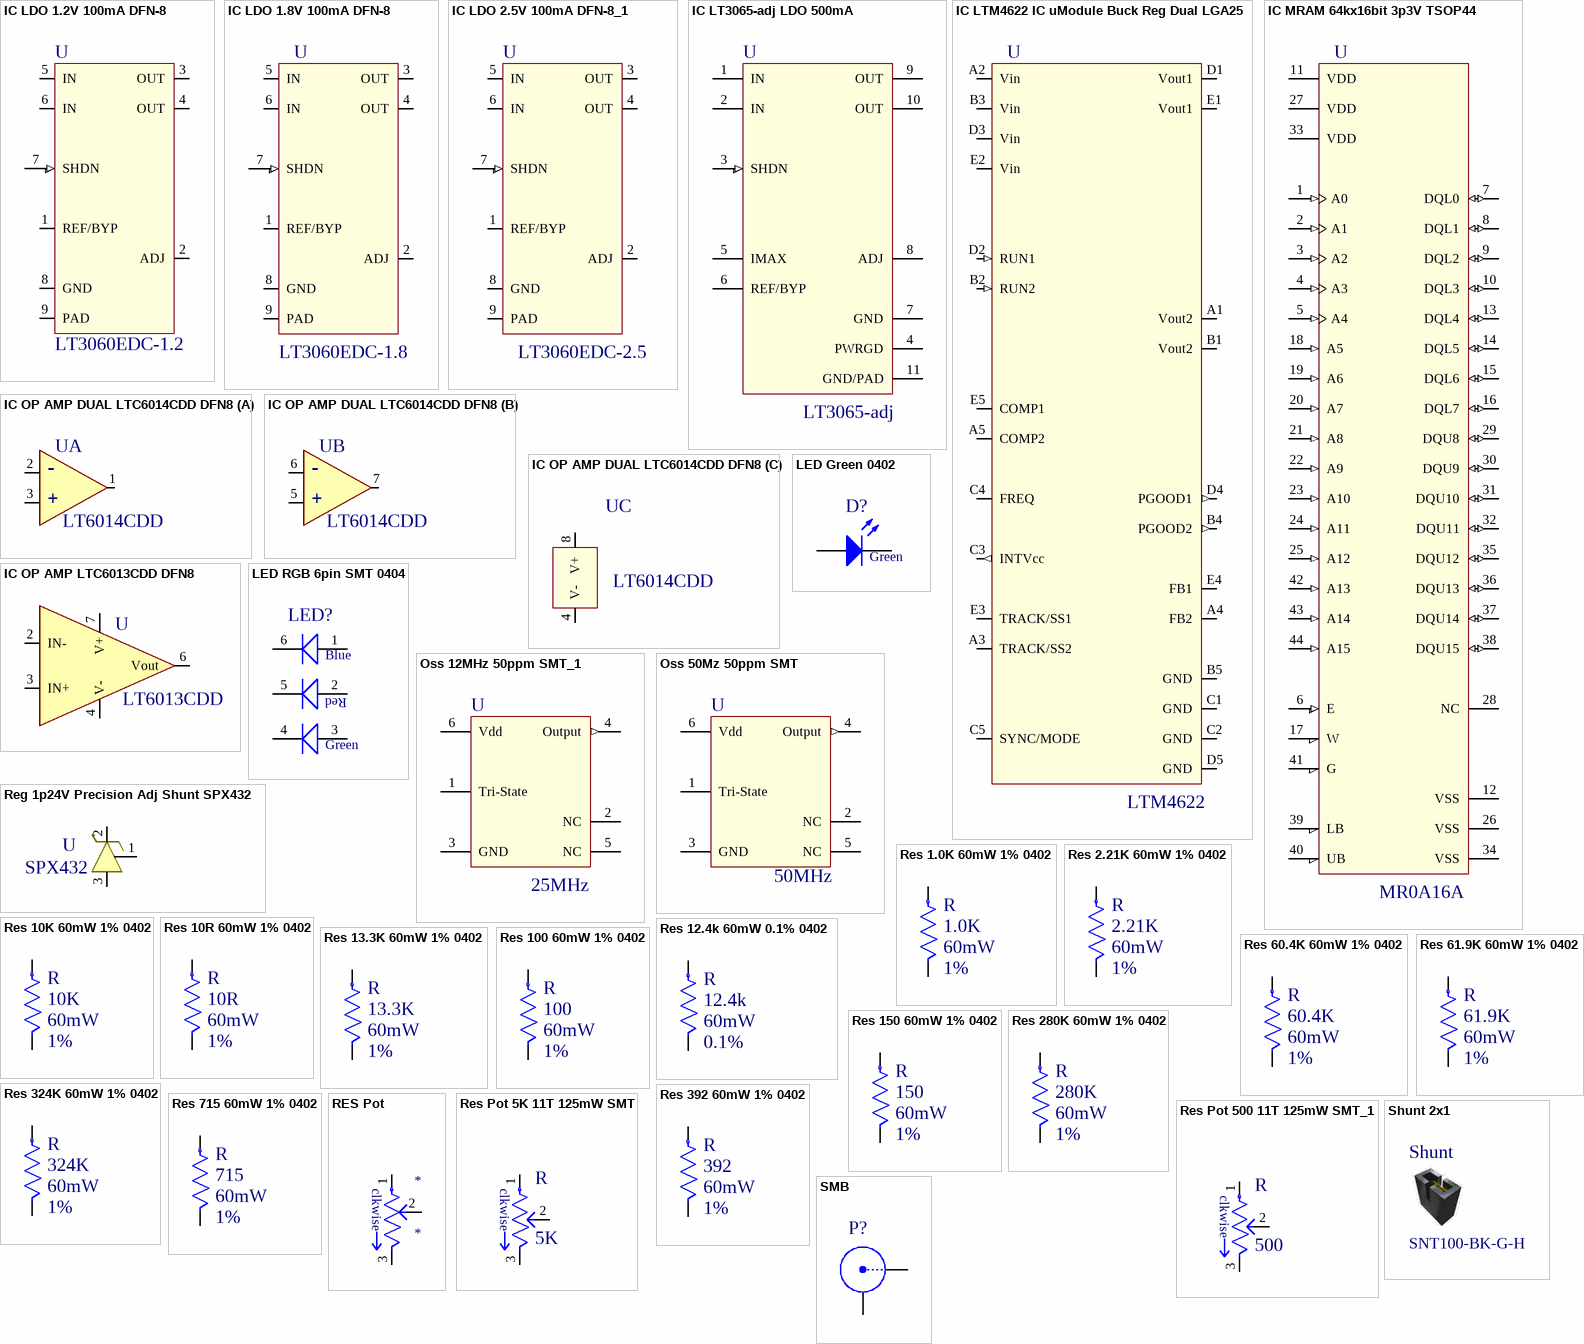
[diagram p2: symbols IC LDO 1.2V 100mA DFN-8 to SMB]

## IC LDO 1.2V 100mA DFN-8
designator U, comment LT3060EDC-1.2
IC LDO 1.2V 100mA DFN-8; Manufacture Part Number: LT3060EDC-1.2#PBF; Manufacture: Linear Tech; Supplier 1: Digi-Key; Supplier 2: Farnell; Supplier Part Number 1: LT3060EDC-1.2#TRMPBFCT-ND; Supplier Part Number 2: 1847534
footprint DFN8_2x3_SON45P300X80_HS-9N (SON, 8-Leads, Body 2.00x3.00mm, Pitch 0.45mm, Thermal Pad 2.38x1.49mm, IPC Medium Density)
pins: 1 REF/BYP, 2 ADJ, 3 OUT (power), 4 OUT (power), 5 IN (power), 6 IN (power), 7 SHDN (in), 8 GND, 9 PAD

## IC LDO 1.8V 100mA DFN-8
designator U, comment LT3060EDC-1.8
IC LDO 1.8V 100mA DFN-8; Manufacture Part Number: LT3060EDC-1.8#PBF; Manufacture: Linear Tech; Supplier 1: Farnell; Supplier 2: Digi-Key; Supplier Part Number 1: 1847542; Supplier Part Number 2: LT3060EDC-1.8#TRMPBFCT-ND
footprint DFN8_2x3_SON45P300X80_HS-9N (SON, 8-Leads, Body 2.00x3.00mm, Pitch 0.45mm, Thermal Pad 2.38x1.49mm, IPC Medium Density)
pins: 1 REF/BYP, 2 ADJ, 3 OUT (power), 4 OUT (power), 5 IN (power), 6 IN (power), 7 SHDN (in), 8 GND, 9 PAD (power)

## IC LDO 2.5V 100mA DFN-8_1
designator U, comment LT3060EDC-2.5
IC LDO 2.5V 100mA DFN-8; Manufacture Part Number: LT3060EDC-2.5#PBF; Manufacture: Linear Tech; Supplier 1: Farnell; Supplier 2: Digi-Key; Supplier Part Number 1: 1847560; Supplier Part Number 2: LT3060EDC-2.5#TRMPBFCT-ND
footprint DFN8_2x3_SON45P300X80_HS-9N (SON, 8-Leads, Body 2.00x3.00mm, Pitch 0.45mm, Thermal Pad 2.38x1.49mm, IPC Medium Density)
pins: 1 REF/BYP, 2 ADJ, 3 OUT (power), 4 OUT (power), 5 IN (power), 6 IN (power), 7 SHDN (in), 8 GND, 9 PAD

## IC LT3065-adj LDO 500mA
designator U, comment LT3065-adj
LT3065-adj LDO 500mA; Supplier 1: Digi-Key; Supplier Part Number 1: LT3065EDD#PBF-ND
footprint DFN10_SON50P300X80_HS-11N_TLH_20151107 (SON, 10-Leads, Body 3.00x3.00mm, Pitch 0.50mm, Thermal Pad 2.38x1.49mm, IPC Medium Density)
pins: 1 IN, 2 IN, 3 SHDN (in), 4 PWRGD, 5 IMAX, 6 REF/BYP, 7 GND, 8 ADJ, 9 OUT (power), 10 OUT (power), 11 GND/PAD

## IC LTM4622 IC uModule Buck Reg Dual LGA25
designator U, comment LTM4622
IC uModule Buck Reg Dual LGA25
footprint LGA25C127P5X5_625X625X182_20131105 (LGA, 25-Leads, Body 6.25x6.25mmx1.82mm, Pitch 1.27mm)
pins: A1 Vout2 (power), A2 Vin (power), A3 TRACK/SS2, A4 FB2, A5 COMP2, B1 Vout2 (power), B2 RUN2 (in), B3 Vin (power), B4 PGOOD2 (out), B5 GND, C1 GND, C2 GND, C3 INTVcc (out), C4 FREQ, C5 SYNC/MODE, D1 Vout1 (power), D2 RUN1 (in), D3 Vin (power), D4 PGOOD1 (out), D5 GND, E1 Vout1 (power), E2 Vin (power), E3 TRACK/SS1, E4 FB1, E5 COMP1

## IC MRAM 64kx16bit 3p3V TSOP44
designator U, comment MR0A16A
IC MRAM 64kx16bit 3p3V TSOP44; Manufacture Part Number 2: MR0A16AYS35; Manufacture 2: Freescale; Manufacture: Everspin; Manufactre Part Number: MR0A16AYS35; Supplier 1: Arrow; Supplier 2: Digi-Key; Supplier 3: Mouser; Supplier Part Number 1: B4Q21rVtnqEuJmeLu3aJqtf0FmB5U2dFJxqnPlHgI0U; Supplier Part Number 2: 819-1007-ND; Supplier Part Number 3: 936-MR0A16AYS35
footprint TSOP44_80P1180X120-44N (TSOP, 44-Leads, Body 18.41x10.16mm, Pitch 0.80mm, IPC Medium Density)
pins: 1 A0 (in), 2 A1 (in), 3 A2 (in), 4 A3 (in), 5 A4 (in), 6 E (in), 7 DQL0 (io), 8 DQL1 (io), 9 DQL2 (io), 10 DQL3 (io), 11 VDD (power), 12 VSS, 13 DQL4 (io), 14 DQL5 (io), 15 DQL6 (io), 16 DQL7 (io), 17 W, 18 A5 (in), 19 A6 (in), 20 A7 (in), 21 A8 (in), 22 A9 (in), 23 A10 (in), 24 A11 (in), 25 A12 (in), 26 VSS, 27 VDD (power), 28 NC, 29 DQU8 (io), 30 DQU9 (io), 31 DQU10 (io), 32 DQU11 (io), 33 VDD (power), 34 VSS, 35 DQU12 (io), 36 DQU13 (io), 37 DQU14 (io), 38 DQU15 (io), 39 LB, 40 UB, 41 G, 42 A13 (in), 43 A14 (in), 44 A15 (in)

## IC OP AMP DUAL LTC6014CDD DFN8
designator U, comment LT6014CDD
IC OP AMP Dual LTC6014 DFN8; Manufacture: Linear Tech; Manufacture Part Number: LT6014CDD; Supplier 1: Arrow; Supplier 2: Digi-Key; Supplier Part Number 1: uKpW_5dmtUtafZa5co9qr3GCxMVrocqlPAusvbOwVqo; Supplier Part Number 2: LT6014CDD#PBF-ND
footprint DFN8_3x3_SON50P300X80_HS-9N_20151201 (SON, 8-Leads, Body 3.00x3.00mm, Pitch 0.50mm, Thermal Pad 2.80x1.80mm, IPC Medium Density)
part A pins: 1 Vouta, 2 ina-, 3 ina+
part B pins: 5 +, 6 inb-, 7 Voutb
part C pins: 4 V-, 8 V+ (power)
part A text: -
part B text: -

## IC OP AMP LTC6013CDD DFN8
designator U, comment LT6013CDD
IC OP AMP LTC6013 DFN8; Manufacture: Linear Tech; Manufacture Part Number: LT6013CCD; Supplier 1: Digi-Key; Supplier 2: Arrow; Supplier Part Number 1: LT6013CDD#PBF-ND; Supplier Part Number 2: UB0iMWcAZiskzlh4P_xaJoH1GM_0AYqbP8Xo8lL3YxA
footprint DFN8_3x3_SON50P300X80_HS-9N_20151201 (SON, 8-Leads, Body 3.00x3.00mm, Pitch 0.50mm, Thermal Pad 2.80x1.80mm, IPC Medium Density)
pins: 2 IN-, 3 IN+, 4 V- (power), 6 Vout  , 7 V+ (power)

## LED Green 0402
designator D?, comment Color: Green  (hidden comment: SML-P11MT)
LED Green 0402; Manufacture Part Number: SML-P11YT; Manufacture: Rohm; Supplier 1: Digi-Key; Supplier 2: Mouser; Supplier Part Number 1: 511-1652-1-ND; Supplier Part Number 2: 755-SML-P11MTT86
footprint CC0402_p56_TLH - LED (LED, 2-Leads, Body 1.0x0.50x0.56mm, IPC Low Density)
pins: 1 A, 2 K

## LED RGB 6pin SMT 0404
designator LED?, comment LED RGB  (value not drawn)
LED RGB 6pin SMT 0404; Manufacture Part Number: SMLP36RGB2W3; Manufacture: Rohm; Supplier 1: Mouser; Supplier 2: Digi-Key; Supplier Part Number 1: 755-SMLP36RGB2W3R; Supplier Part Number 2: 846-1097-1-ND
footprint LED_RGB_1p5x1p0x0p2_6pin_SON57P100X256N (SON, 6-Leads, Body 1.50x1.00mm, Pitch 0.57mm, IPC Medium Density)
pins: 1 BLue_Anode, 2 Red_Anode, 3 Green_Anode, 4 Green_cath, 5 Red_cath, 6 Blue_cath
text: Blue; Red; Green

## Oss 12MHz 50ppm SMT_1
designator U, comment 25MHz
Oss 12MHz 50ppm SMT; Manufacture Part Number: ASVMPC-12.000MHz-Z; Manufacture: ABRACON; Supplier 1: Mouser; Supplier 2: Digi-Key; Supplier Part Number 1: 815-ASVMPC-12ZT; Supplier Part Number 2: ASVMPC-12.000MHZ-Z-T-ND
footprint SON254P500X85_HS-7N_Oss (SON, 6-Leads, Body 7.00x5.00mm, Pitch 2.54mm, Thermal Pad 2.80x1.80mm, IPC Medium Density)
pins: 1 Tri-State, 2 NC, 3 GND, 4 Output (out), 5 NC, 6 Vdd (power)

## Oss 50Mz 50ppm SMT
designator U, comment 50MHz
Oss 50MHz 50ppm SMT; Manufacture Part Number: ASVMPC-50.000MHz-Z; Manufacture: ABRACON; Supplier 1: Digi-Key; Supplier 2: Newark; Supplier Part Number 1: 535-11471-1-ND; Supplier Part Number 2: 48T0390
footprint SON254P500X85_HS-7N_Oss (SON, 6-Leads, Body 7.00x5.00mm, Pitch 2.54mm, Thermal Pad 2.80x1.80mm, IPC Medium Density)
pins: 1 Tri-State, 2 NC, 3 GND, 4 Output (out), 5 NC, 6 Vdd (power)

## Reg 1p24V Precision Adj Shunt SPX432
designator U, comment SPX432
IC, Reg 1.24V Precision Adj Shunt SOT23 SPX432; Manufacture: SIPEX; Manufacture Part Number: SPX432; Date Created: 20151202; Supplier 1: Digi-Key; Supplier 2: Mouser; Supplier Part Number 1: 1016-1415-ND; Supplier Part Number 2: 701-SPX432AM-L
footprint SOT23_SOT95P245X112-3N_20151202 (SOT23, 3-Leads, Body 2.92x2.45mm, Pitch 0.95mm, IPC Medium Density)
pins: 1 Ref, 2 Cathode, 3 Anode

## Res 1.0K 60mW 1% 0402
designator R, comment Rating: 60mW  Tolerance: 1%  (hidden comment: 1.0K)
Resistor 1.0K 60mW 1% 0402 ThickFilm; Manufacture: Vishay; Manufacture Part Number: CRCW04021K00FK; Supplier 1: Digi-Key; Supplier 2: Digi-Key; Supplier Part Number 1: 311-1.00KLRDKR-ND; Supplier Part Number 2: P1.00KLDKR-ND; Value: 1.0K
footprint CC0402_p56_TLH (Chip Capacitor, 2-Leads, Body 1.0x0.50x0.56mm, IPC Low Density)
pins: 1, 2

## Res 2.21K 60mW 1% 0402
designator R, comment Rating: 60mW  Tolerance: 1%  (hidden comment: 2.21K)
Resistor 2.21K 60mW 1% 0402 ThickFilm; Manufacture: Vishay; Manufacture Part Number: CRCW04022K21FK; Supplier 1: Newark; Supplier Part Number 1: 52K6795; Value: 2.21K
footprint CC0402_p56_TLH (Chip Capacitor, 2-Leads, Body 1.0x0.50x0.56mm, IPC Low Density)
pins: 1, 2

## Res 10K 60mW 1% 0402
designator R, comment Rating: 60mW  Tolerance: 1%  (hidden comment: 10K)
Resistor 10K 60mW 1% 0402 ThickFilm; Manufacture: Vishay; Manufacture Part Number: CRCW040210K0FK; Supplier 1: Digi-Key; Supplier 2: Mouser; Supplier Part Number 1: 541-10.0KLCT-ND; Supplier Part Number 2: 71-CRCW040210K0FKEDH; Value: 10K
footprint CC0402_p56_TLH (Chip Capacitor, 2-Leads, Body 1.0x0.50x0.56mm, IPC Low Density)
pins: 1, 2

## Res 10R 60mW 1% 0402
designator R, comment Rating: 60mW  Tolerance: 1%  (hidden comment: 10R)
Resistor 10R 60mW 1% 0402 ThickFilm; Manufacture: Vishay; Manufacture Part Number: CRCW040210R0FK; Supplier 1: Mouser; Supplier Part Number 1: 71-CRCW0402-10-E3; Value: 10R
footprint CC0402_p56_TLH (Chip Capacitor, 2-Leads, Body 1.0x0.50x0.56mm, IPC Low Density)
pins: 1, 2

## Res 12.4k 60mW 0.1% 0402
designator R, comment Rating: 60mW  Tolerance: 0.1%  (hidden comment: 12.4k)
Resistor 12.4k 60mW 0.1% 0402 ThickFilm; Manufacture: Vishay; Manufacture Part Number: TNPW040212K4BE; Supplier 1: Mouser; Supplier 2: Mouser; Supplier Part Number 1: 71-TNPW040212K4BEED; Supplier Part Number 2: 667-ERA-2AEB1242X; Value: 12.4k
footprint CC0402_p56_TLH (Chip Capacitor, 2-Leads, Body 1.0x0.50x0.56mm, IPC Low Density)
pins: 1, 2

## Res 13.3K 60mW 1% 0402
designator R, comment Rating: 60mW  Tolerance: 1%  (hidden comment: 13.3K)
Resistor 13.3K 60mW 1% 0402 ThickFilm; Manufacture: Vishay; Manufacture Part Number: CRCW040213K3FK; Supplier 1: Mouser; Supplier 2: Digi-Key; Supplier Part Number 1: 71-CRCW0402-13.3K-E3; Supplier Part Number 2: P13.3KLDKR-ND; Value: 13.3K
footprint CC0402_p56_TLH (Chip Capacitor, 2-Leads, Body 1.0x0.50x0.56mm, IPC Low Density)
pins: 1, 2

## Res 60.4K 60mW 1% 0402
designator R, comment Rating: 60mW  Tolerance: 1%  (hidden comment: 60.4K)
Resistor 60.4K 60mW 1% 0402 ThickFilm; Manufacture: Vishay; Manufacture Part Number: CRCW040260K4FK; Supplier 1: Digi-Key; Supplier 2: Mouser; Supplier 3: Newark; Supplier Part Number 1: P60.4KLCT-ND; Supplier Part Number 2: 660-RK73H1ETTP6042F; Supplier Part Number 3: 52K7190; Value: 60.4K
footprint CC0402_p56_TLH (Chip Capacitor, 2-Leads, Body 1.0x0.50x0.56mm, IPC Low Density)
pins: 1, 2

## Res 61.9K 60mW 1% 0402
designator R, comment Rating: 60mW  Tolerance: 1%  (hidden comment: 61.9K)
Resistor 61.9K 60mW 1% 0402 ThickFilm; Manufacture: Vishay; Manufacture Part Number: CRCW040261K9FK; Supplier 1: Mouser; Supplier 2: Digi-Key; Supplier 3: Digi-Key; Supplier Part Number 1: 71-CRCW0402-61.9K-E3; Supplier Part Number 2: 311-61.9KLRDKR-ND; Supplier Part Number 3: P61.9KLCT-ND; Value: 61.9K
footprint CC0402_p56_TLH (Chip Capacitor, 2-Leads, Body 1.0x0.50x0.56mm, IPC Low Density)
pins: 1, 2

## Res 100 60mW 1% 0402
designator R, comment Rating: 60mW  Tolerance: 1%  (hidden comment: 100)
Resistor 100 60mW 1% 0402 ThickFilm; Manufacture: Vishay; Manufacture Part Number: CRCW0402100RFK; Supplier 1: Newark; Supplier 2: Mouser; Supplier Part Number 1: 65T8246; Supplier Part Number 2: 71-CRCW0402-100-E3; Value: 100
footprint CC0402_p56_TLH (Chip Capacitor, 2-Leads, Body 1.0x0.50x0.56mm, IPC Low Density)
pins: 1, 2

## Res 150 60mW 1% 0402
designator R, comment Rating: 60mW  Tolerance: 1%  (hidden comment: 150)
Resistor 150 60mW 1% 0402 ThickFilm; Manufacture: Vishay; Manufacture Part Number: CRCW0402150RFK; Supplier 1: Digi-Key; Supplier 2: Arrow; Supplier Part Number 1: P150LCT-ND; Supplier Part Number 2: _UdCBwdjy3obOljgOkNRlLXUS9QReSEZRvzSt6pzZbA; Value: 150
footprint CC0402_p56_TLH (Chip Capacitor, 2-Leads, Body 1.0x0.50x0.56mm, IPC Low Density)
pins: 1, 2

## Res 280K 60mW 1% 0402
designator R, comment Rating: 60mW  Tolerance: 1%  (hidden comment: 280K)
Resistor 280K 60mW 1% 0402 ThickFilm; Manufacture: Vishay; Manufacture Part Number: CRCW0402280KFK; Supplier 1: Digi-Key; Supplier 2: Mouser; Supplier 3: Newark; Supplier Part Number 1: P280KLCT-ND; Supplier Part Number 2: 71-CRCW0402-280K-E3; Supplier Part Number 3: 52K8360; Value: 280K
footprint CC0402_p56_TLH (Chip Capacitor, 2-Leads, Body 1.0x0.50x0.56mm, IPC Low Density)
pins: 1, 2

## Res 324K 60mW 1% 0402
designator R, comment Rating: 60mW  Tolerance: 1%  (hidden comment: 324K)
Resistor 324K 60mW 1% 0402 ThickFilm; Manufacture: Vishay; Manufacture Part Number: CRCW0402324KFK; Supplier 1: Digi-Key; Supplier 2: Digi-Key; Supplier Part Number 1: P324KLDKR-ND; Supplier Part Number 2: YAG3117DKR-ND; Value: 324K
footprint CC0402_p56_TLH (Chip Capacitor, 2-Leads, Body 1.0x0.50x0.56mm, IPC Low Density)
pins: 1, 2

## Res 392 60mW 1% 0402
designator R, comment Rating: 60mW  Tolerance: 1%  (hidden comment: 392)
Resistor 392 60mW 1% 0402 ThickFilm; Manufacture: Vishay; Manufacture Part Number: CRCW0402392RFK; Supplier 1: Newark; Supplier 2: Newark; Supplier Part Number 1: 53W4357; Supplier Part Number 2: 52K7033; Value: 392
footprint CC0402_p56_TLH (Chip Capacitor, 2-Leads, Body 1.0x0.50x0.56mm, IPC Low Density)
pins: 1, 2

## Res 715 60mW 1% 0402
designator R, comment Rating: 60mW  Tolerance: 1%  (hidden comment: 715)
Resistor 715 60mW 1% 0402 ThickFilm; Manufacture: Vishay; Manufacture Part Number: CRCW0402715RFK; Supplier 1: Allied; Supplier 2: Newark; Supplier Part Number 1: 70268411; Supplier Part Number 2: 52K7255; Value: 715
footprint CC0402_p56_TLH (Chip Capacitor, 2-Leads, Body 1.0x0.50x0.56mm, IPC Low Density)
pins: 1, 2

## RES Pot
designator *
footprint RES, Pot 5K SMT 11turn 125mW
pins: 1, 2, 3
text: clkwise

## Res Pot 5K 11T 125mW SMT
designator R, comment 5K
Res Pot 5K 11T 125mW SMT; Manufacture: Bourns; Manufacture Part number: 3223W-1-502E; Value: 5K; Rating: 125mW; Supplier 1: Allied; Supplier 2: Digi-Key; Supplier Part Number 1: 70153498; Supplier Part Number 2: 3223W-1-502-ND; Date Created: 20151205
footprint RES_ Pot_3pin_318x231x416_Bourns3223W
pins: 1, 2, 3
text: clkwise

## Res Pot 500 11T 125mW SMT_1
designator R, comment 500
Res Pot 500 11T 125mW SMT; Manufacture: Bourns; Manufacture Part number: 3223W-1-501E; Value: 500; Rating: 125mW; Date Created: 20151205; Supplier 1: Mouser; Supplier 2: Digi-Key; Supplier Part Number 1: 652-3223W-1-501E; Supplier Part Number 2: 3223W-1-501-ND
footprint RES_ Pot_3pin_318x231x416_Bourns3223W
pins: 1, 2, 3
text: clkwise

## Shunt 2x1
designator Shunt, comment Manufacture Part number: SNT100-BK-G-H  (hidden comment: Shunt)  (mechanical)
Shunt 2x1x0p1; Manufacture: Samtec; Supplier 1: Newark; Supplier 2: Digi-Key; Supplier Part Number 1: 73J7699; Supplier Part Number 2: SAM8859-ND

## SMB
designator P?
SMB Straight Connector; LatestRevisionDate: 17-Jul-2002; LatestRevisionNote: Re-released for DXP Platform.; Publisher: Altium Limited
footprint SMB_V-RJ45 (Connector; SMB Straight)
signal-integrity model Connector
pins: 1 X, 2 Y